# Altium footprint library ST1L05CPU33R.PcbLib: 3 footprints
Each footprint in its own frame and in the unit in brackets; x right, y up, seen from the top. Pads: shape width x height; smd on the part's side, far side on the other; paste and mask are expansions set on the pad; w line width, h text height; cw(c..) or ccw(c..) is an arc to the next point about the centre after c.
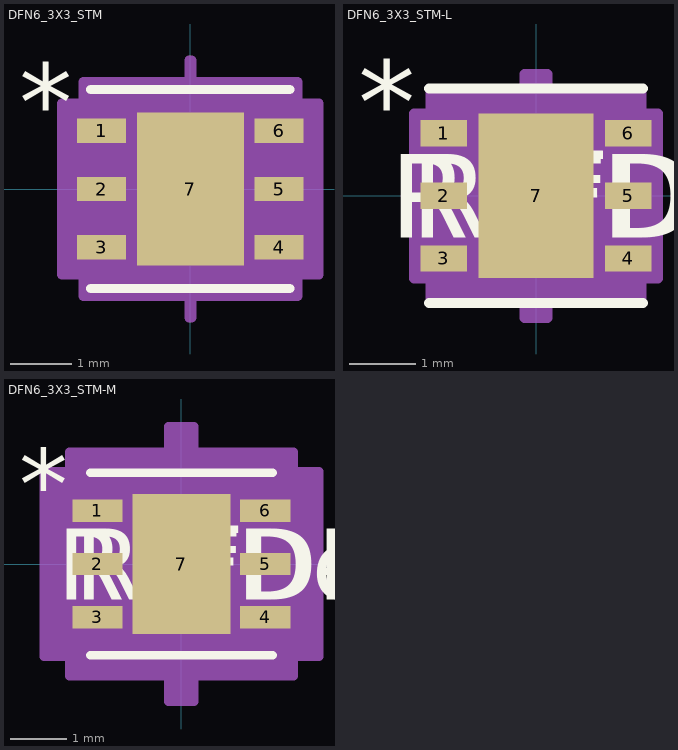
[diagram p0: the footprints below, top view; thin cyan lines are the x and y axes]

## DFN6_3X3_STM [mm]
pads (7):
  rect 0.8x0.4 smd paste+0 mask+0: 1(-1.45,0.95) 2(-1.45,0) 3(-1.45,-0.95) 4(1.45,-0.95) 5(1.45,0) 6(1.45,0.95)
  rect 1.75x2.5 smd paste+0 mask+0: 7(0,0)
Top Overlay:
  lines w0.152: -1.627,-1.627 1.627,-1.627 ; -1.627,1.627 1.627,1.627
  text "*" at -2.802,0.79 h1.27
Mechanical 13:
  lines w0.025: -1.5,0.23 -0.23,1.5 ; -1.55,-1.175 -1.5,-1.175 -1.5,-0.725 -1.55,-0.725 -1.55,-1.175 ; -1.55,-0.225 -1.5,-0.225 -1.5,0.225 -1.55,0.225 -1.55,-0.225 ; -1.55,0.725 -1.5,0.725 -1.5,1.175 -1.55,1.175 -1.55,0.725 ; -1.5,-1.5 -1.5,1.5 1.5,1.5 1.5,-1.5 -1.5,-1.5 ; 1.5,-1.175 1.55,-1.175 1.55,-0.725 1.5,-0.725 1.5,-1.175 ; 1.5,-0.225 1.55,-0.225 1.55,0.225 1.5,0.225 1.5,-0.225 ; 1.5,0.725 1.55,0.725 1.55,1.175 1.5,1.175 1.5,0.725
  text "*" at -1.368,0.79 h1.27
Mechanical 15:
  region: 0.021,-1.754 -1.754,-1.754 -1.754,-1.404 -2.104,-1.404 -2.104,1.404 -1.754,1.404 -1.754,1.754 0.021,1.754 0.021,2.104 -0.021,2.104 -0.021,1.754 1.754,1.754 1.754,1.404 2.104,1.404 2.104,-1.404 1.754,-1.404 1.754,-1.754 -0.021,-1.754 -0.021,-2.104 0.021,-2.104
  lines w0.152: -2.104,-1.404 -2.104,1.404 -1.754,1.404 -1.754,1.754 0.021,1.754 0.021,2.104 -0.021,2.104 -0.021,1.754 1.754,1.754 1.754,1.404 2.104,1.404 2.104,-1.404 1.754,-1.404 1.754,-1.754 -0.021,-1.754 -0.021,-2.104 0.021,-2.104 0.021,-1.754 -1.754,-1.754 -1.754,-1.404 -2.104,-1.404
3D body "DFN6_3X3_STM.step": height 0.8, standoff 0, extent -1.55,-1.5 1.55,1.5

## DFN6_3X3_STM-L [mm]
pads (7):
  rect 0.7x0.4 smd paste+0 mask+0: 1(-1.4,0.95) 2(-1.4,0) 3(-1.4,-0.95) 4(1.4,-0.95) 5(1.4,0) 6(1.4,0.95)
  rect 1.75x2.5 smd paste+0 mask+0: 7(0,0)
Top Overlay:
  lines w0.152: -1.627,-1.627 1.627,-1.627 ; -1.627,1.627 1.627,1.627
  text "*" at -2.702,0.79 h1.27
  text "RefDes" at -1.905,-0.635 h1.27
  text "REFDES" at -2.222,-0.635 h1.27
Mechanical 13:
  lines w0.025: -1.5,0.23 -0.23,1.5 ; -1.5,-1.5 1.5,-1.5 ; -1.5,-1.5 -1.5,1.5 ; -1.5,-1.5 -1.5,-1.5 ; -1.5,1.5 1.5,1.5 ; -1.5,1.5 -1.5,1.5 ; 1.5,-1.5 1.5,-1.5 ; 1.5,-1.5 1.5,1.5 ; 1.5,1.5 1.5,1.5 ; -1.55,-1.175 -1.55,-0.725 -1.5,-0.725 -1.5,-1.175 -1.55,-1.175 ; -1.55,-0.225 -1.55,0.225 -1.5,0.225 -1.5,-0.225 -1.55,-0.225 ; -1.55,0.725 -1.55,1.175 -1.5,1.175 -1.5,0.725 -1.55,0.725 ; 1.5,-1.175 1.5,-0.725 1.55,-0.725 1.55,-1.175 1.5,-1.175 ; 1.5,-0.225 1.5,0.225 1.55,0.225 1.55,-0.225 1.5,-0.225 ; 1.5,0.725 1.5,1.175 1.55,1.175 1.55,0.725 1.5,0.725
  text "*" at -1.368,0.79 h1.27
  text "RefDes2" at -2.222,-0.635 h1.27
Mechanical 15:
  region: 0.173,-1.602 -1.602,-1.602 -1.602,-1.252 -1.852,-1.252 -1.852,1.252 -1.602,1.252 -1.602,1.602 0.173,1.602 0.173,1.852 -0.173,1.852 -0.173,1.602 1.602,1.602 1.602,1.252 1.852,1.252 1.852,-1.252 1.602,-1.252 1.602,-1.602 -0.173,-1.602 -0.173,-1.852 0.173,-1.852
  lines w0.152: -1.852,-1.252 -1.602,-1.252 -1.602,-1.602 0.173,-1.602 0.173,-1.852 -0.173,-1.852 -0.173,-1.602 1.602,-1.602 1.602,-1.252 1.852,-1.252 1.852,1.252 1.602,1.252 1.602,1.602 -0.173,1.602 -0.173,1.852 0.173,1.852 0.173,1.602 -1.602,1.602 -1.602,1.252 -1.852,1.252 -1.852,-1.252
3D body "DFN6_3X3_STM.step": height 0.8, standoff 0, extent -1.55,-1.5 1.55,1.5

## DFN6_3X3_STM-M [mm]
pads (7):
  rect 0.9x0.4 smd paste+0 mask+0: 1(-1.5,0.95) 2(-1.5,0) 3(-1.5,-0.95) 4(1.5,-0.95) 5(1.5,0) 6(1.5,0.95)
  rect 1.75x2.5 smd paste+0 mask+0: 7(0,0)
Top Overlay:
  lines w0.152: -1.627,-1.627 1.627,-1.627 ; -1.627,1.627 1.627,1.627
  text "*" at -2.902,0.79 h1.27
  text "RefDes" at -1.905,-0.635 h1.27
  text "REFDES" at -2.222,-0.635 h1.27
Mechanical 13:
  lines w0.025: -1.5,0.23 -0.23,1.5 ; -1.5,-1.5 1.5,-1.5 ; -1.5,-1.5 -1.5,1.5 ; -1.5,-1.5 -1.5,-1.5 ; -1.5,1.5 1.5,1.5 ; -1.5,1.5 -1.5,1.5 ; 1.5,-1.5 1.5,-1.5 ; 1.5,-1.5 1.5,1.5 ; 1.5,1.5 1.5,1.5 ; -1.55,-1.175 -1.55,-0.725 -1.5,-0.725 -1.5,-1.175 -1.55,-1.175 ; -1.55,-0.225 -1.55,0.225 -1.5,0.225 -1.5,-0.225 -1.55,-0.225 ; -1.55,0.725 -1.55,1.175 -1.5,1.175 -1.5,0.725 -1.55,0.725 ; 1.5,-1.175 1.5,-0.725 1.55,-0.725 1.55,-1.175 1.5,-1.175 ; 1.5,-0.225 1.5,0.225 1.55,0.225 1.55,-0.225 1.5,-0.225 ; 1.5,0.725 1.5,1.175 1.55,1.175 1.55,0.725 1.5,0.725
  text "*" at -1.368,0.79 h1.27
  text "RefDes2" at -2.222,-0.635 h1.27
Mechanical 15:
  region: -0.233,-2.008 -2.008,-2.008 -2.008,-1.658 -2.458,-1.658 -2.458,1.658 -2.008,1.658 -2.008,2.008 -0.233,2.008 -0.233,2.458 0.233,2.458 0.233,2.008 2.008,2.008 2.008,1.658 2.458,1.658 2.458,-1.658 2.008,-1.658 2.008,-2.008 0.233,-2.008 0.233,-2.458 -0.233,-2.458
  lines w0.152: -2.458,-1.658 -2.008,-1.658 -2.008,-2.008 -0.233,-2.008 -0.233,-2.458 0.233,-2.458 0.233,-2.008 2.008,-2.008 2.008,-1.658 2.458,-1.658 2.458,1.658 2.008,1.658 2.008,2.008 0.233,2.008 0.233,2.458 -0.233,2.458 -0.233,2.008 -2.008,2.008 -2.008,1.658 -2.458,1.658 -2.458,-1.658
3D body "DFN6_3X3_STM.step": height 0.8, standoff 0, extent -1.55,-1.5 1.55,1.5